# Altium footprint library Oscill.PcbLib: 19 footprints (part 2 of 2)
Each footprint in its own frame and in the unit in brackets; x right, y up, seen from the top. Pads: shape width x height; smd on the part's side, far side on the other; paste and mask are expansions set on the pad; w line width, h text height; cw(c..) or ccw(c..) is an arc to the next point about the centre after c.
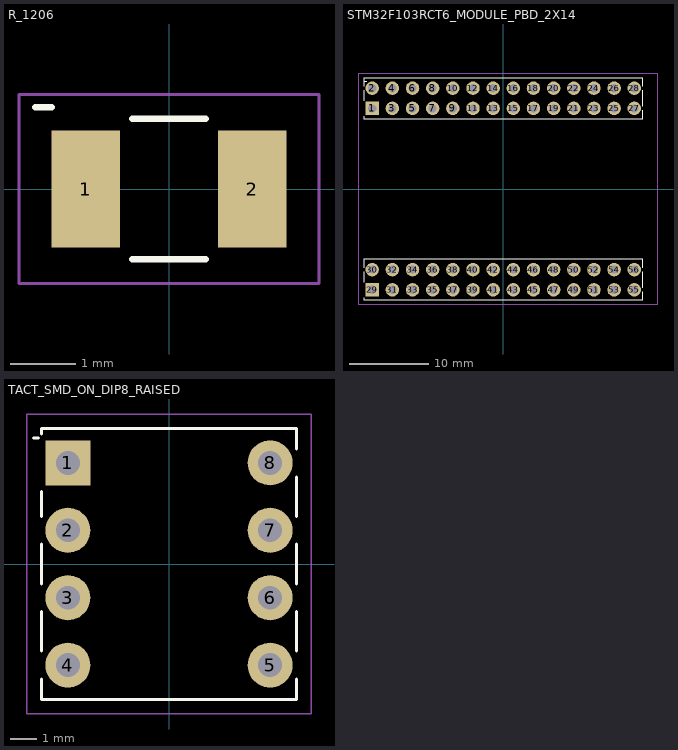
[diagram p1: the footprints below, top view; thin cyan lines are the x and y axes]

## R_1206 [mm] "Generic 3216/1206 SMD resistor"
height 0.6
pads (2):
  rect 1.05x1.8 smd: 1(-1.275,0) 2(1.275,0)
Top Overlay:
  lines w0.1: -2.05,1.25 -1.8,1.25 ; -0.56,-1.08 0.56,-1.08 ; -0.56,1.08 0.56,1.08
Mechanical 15:
  lines w0.05: -2.3,-1.45 2.3,-1.45 2.3,1.45 -2.3,1.45 -2.3,-1.45
3D body: height 0.6, standoff 0, extent -1.15,-0.8 1.15,0.8
3D body: height 0.6, standoff 0, extent -1.6,-0.8 -1.15,0.8
3D body: height 0.6, standoff 0, extent 1.15,-0.8 1.6,0.8

## STM32F103RCT6_MODULE_PBD_2X14 [mm] "STM32F103RCT6 module on two 2x14 PBD sockets, 35.56x27.94 mm board"
height 16.14
pads (56):
  rect 1.7x1.7 hole 1.02: 1(-16.51,10.16) 29(-16.51,-12.7)
  round 1.7 hole 1.02: 2(-16.51,12.7) 3(-13.97,10.16) 4(-13.97,12.7) 5(-11.43,10.16) 6(-11.43,12.7) 7(-8.89,10.16) 8(-8.89,12.7) 9(-6.35,10.16) 10(-6.35,12.7) 11(-3.81,10.16) 12(-3.81,12.7) 13(-1.27,10.16) 14(-1.27,12.7) 15(1.27,10.16) 16(1.27,12.7) 17(3.81,10.16) 18(3.81,12.7) 19(6.35,10.16) 20(6.35,12.7) 21(8.89,10.16) 22(8.89,12.7) 23(11.43,10.16) 24(11.43,12.7) 25(13.97,10.16) 26(13.97,12.7) 27(16.51,10.16) 28(16.51,12.7) 30(-16.51,-10.16) 31(-13.97,-12.7) 32(-13.97,-10.16) 33(-11.43,-12.7) 34(-11.43,-10.16) 35(-8.89,-12.7) 36(-8.89,-10.16) 37(-6.35,-12.7) 38(-6.35,-10.16) 39(-3.81,-12.7) 40(-3.81,-10.16) 41(-1.27,-12.7) 42(-1.27,-10.16) 43(1.27,-12.7) 44(1.27,-10.16) 45(3.81,-12.7) 46(3.81,-10.16) 47(6.35,-12.7) 48(6.35,-10.16) 49(8.89,-12.7) 50(8.89,-10.16) 51(11.43,-12.7) 52(11.43,-10.16) 53(13.97,-12.7) 54(13.97,-10.16) 55(16.51,-12.7) 56(16.51,-10.16)
Top Overlay:
  lines w0.12: -17.6,-13.678 -17.6,-13.98 17.6,-13.98 17.6,-12.966 ; -17.6,-11.722 -17.6,-10.426 ; -17.6,-9.894 -17.6,-8.88 17.6,-8.88 17.6,-9.894 ; -17.6,9.182 -17.6,8.88 17.6,8.88 17.6,9.894 ; -17.6,11.138 -17.6,12.434 ; -17.6,12.966 -17.6,13.98 17.6,13.98 17.6,12.966 ; -17.5,13.6 -17.18,13.6 ; 17.6,-12.434 17.6,-10.426 ; 17.6,10.426 17.6,12.434
Mechanical 15:
  lines w0.05: -18.3,-14.5 19.5,-14.5 19.5,14.5 -18.3,14.5 -18.3,-14.5
3D body: height 8.5, standoff 0, extent -17.55,8.93 17.55,13.93
3D body: height 11.04, standoff 8.5, extent -17.55,8.93 17.55,13.93
3D body: height 8.5, standoff 0, extent -17.55,-13.93 17.55,-8.93
3D body: height 11.04, standoff 8.5, extent -17.55,-13.93 17.55,-8.93
3D body: height 12.64, standoff 11.04, extent -17.78,-13.97 17.78,13.97
3D body: height 16.14, standoff 12.64, extent 10,-4.5 19,4.5
3D body: height 14.64, standoff 12.64, extent -6.2,-1.2 -3.8,1.2
3D body: height 14.64, standoff 12.64, extent -2.7,-1.2 -0.3,1.2
3D body: height 14.64, standoff 12.64, extent 0.8,-1.2 3.2,1.2

## TACT_SMD_ON_DIP8_RAISED [mm] "Raised tactile switch on DIP-8 7.62 mm carrier"
height 7.5
pads (8):
  rect 1.7x1.7 hole 0.9: 1(-3.81,3.81)
  round 1.7 hole 0.9: 2(-3.81,1.27) 3(-3.81,-1.27) 4(-3.81,-3.81) 5(3.81,-3.81) 6(3.81,-1.27) 7(3.81,1.27) 8(3.81,3.81)
Top Overlay:
  lines w0.12: -5.1,4.75 -4.917,4.75 ; -4.8,-4.338 -4.8,-5.1 4.8,-5.1 4.8,-4.338 ; -4.8,-3.282 -4.8,-1.798 ; -4.8,-0.742 -4.8,0.742 ; -4.8,1.798 -4.8,2.727 ; -4.8,4.893 -4.8,5.1 4.8,5.1 4.8,4.338 ; 4.8,-3.282 4.8,-1.798 ; 4.8,-0.742 4.8,0.742 ; 4.8,1.798 4.8,3.282
Mechanical 15:
  lines w0.05: -5.35,-5.65 5.35,-5.65 5.35,5.65 -5.35,5.65 -5.35,-5.65
3D body: height 4, standoff 0, extent -4.8,-5.1 4.8,5.1
3D body: height 7, standoff 4, extent -3.1,-3.1 3.1,3.1
3D body: height 7.5, standoff 7, extent -1.6,-1.6 1.6,1.6